# Altium schematic symbol library HSS_AUIPS6044G.SchLib: 1 symbol
Pins are listed as number, name and electrical type; pins without a type are passive.

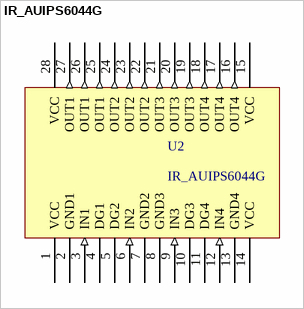
[diagram p0: symbol IR_AUIPS6044G]

## IR_AUIPS6044G
designator U2
High Side Switch
pins: 1 VCC (power), 2 GND1 (power), 3 IN1 (in), 4 DG1, 5 DG2, 6 IN2 (in), 7 GND2 (power), 8 GND3 (power), 9 IN3 (in), 10 DG3, 11 DG4, 12 IN4 (in), 13 GND4, 14 VCC (power), 15 VCC (power), 16 OUT4 (out), 17 OUT4 (out), 18 OUT4 (out), 19 OUT3 (out), 20 OUT3 (out), 21 OUT3 (out), 22 OUT2 (out), 23 OUT2 (out), 24 OUT2 (out), 25 OUT1 (out), 26 OUT1 (out), 27 OUT1 (out), 28 VCC (power)